# Altium footprint library Antenna.PcbLib: 2 footprints
Each footprint in its own frame and in the unit in brackets; x right, y up, seen from the top. Pads: shape width x height; smd on the part's side, far side on the other; paste and mask are expansions set on the pad; w line width, h text height; cw(c..) or ccw(c..) is an arc to the next point about the centre after c.
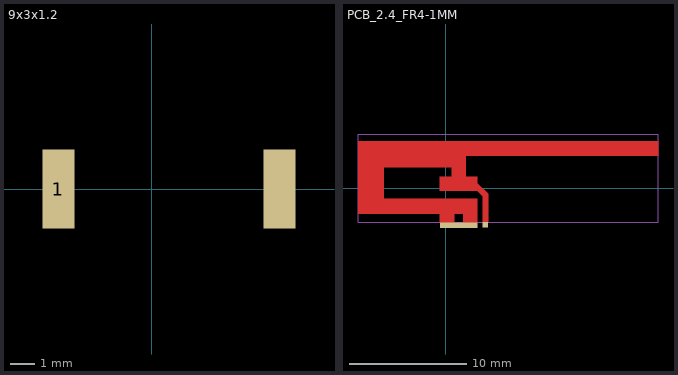
[diagram p0: the footprints below, top view; thin cyan lines are the x and y axes]

## 9x3x1.2 [mm] "Multilayer Chip Antenna Size (9.0*3.0*1.2mm3)"
height 3
pads (2):
  rect 1.3x3.2 smd: 1(-3.8,0) ""(5.2,0)
3D body "User Library-AN9520.step": height 1.05, standoff 0, extent -4.15,-1.05 5.35,1.05

## PCB_2.4_FR4-1MM [mm] "2.4-GHz Inverted F Antenna (PCB 1-mm thickness, FR-4 material)"
height 0.2
pads (2):
  rect 0.46x0.46 smd mask+0.102: FEED(3.36,-3.1)
  rect 3.2x0.46 smd mask+0.102: GND(1.08,-3.14)
Top Layer:
  region: -7.5,-2.17 -0.52,-2.17 -0.52,-2.95 0.69,-2.95 0.69,-2.17 1.47,-2.17 1.47,-2.95 2.68,-2.95 2.68,-0.88 -5.32,-0.88 -5.32,1.79 0.48,1.79 0.48,0.99 -0.52,0.99 -0.52,-0.22 2.68,-0.22 3.13,-0.67 3.13,-2.91 3.59,-2.91 3.59,-0.48 2.68,0.43 2.68,0.99 1.68,0.99 1.68,2.79 18.08,2.79 18.08,4 -7.5,4
Mechanical 1:
  lines w0.1: -7.5,-2.91 -7.5,4.61 18.08,4.61 18.08,-2.91 -7.5,-2.91
Multi-Layer:
  pour cut-out: -7.5,-2.91 -7.49,4.61 18.08,4.61 18.08,-2.91